# Altium footprint library SOT.PcbLib: 29 footprints (part 2 of 2)
Each footprint in its own frame and in the unit in brackets; x right, y up, seen from the top. Pads: shape width x height; smd on the part's side, far side on the other; paste and mask are expansions set on the pad; w line width, h text height; cw(c..) or ccw(c..) is an arc to the next point about the centre after c.
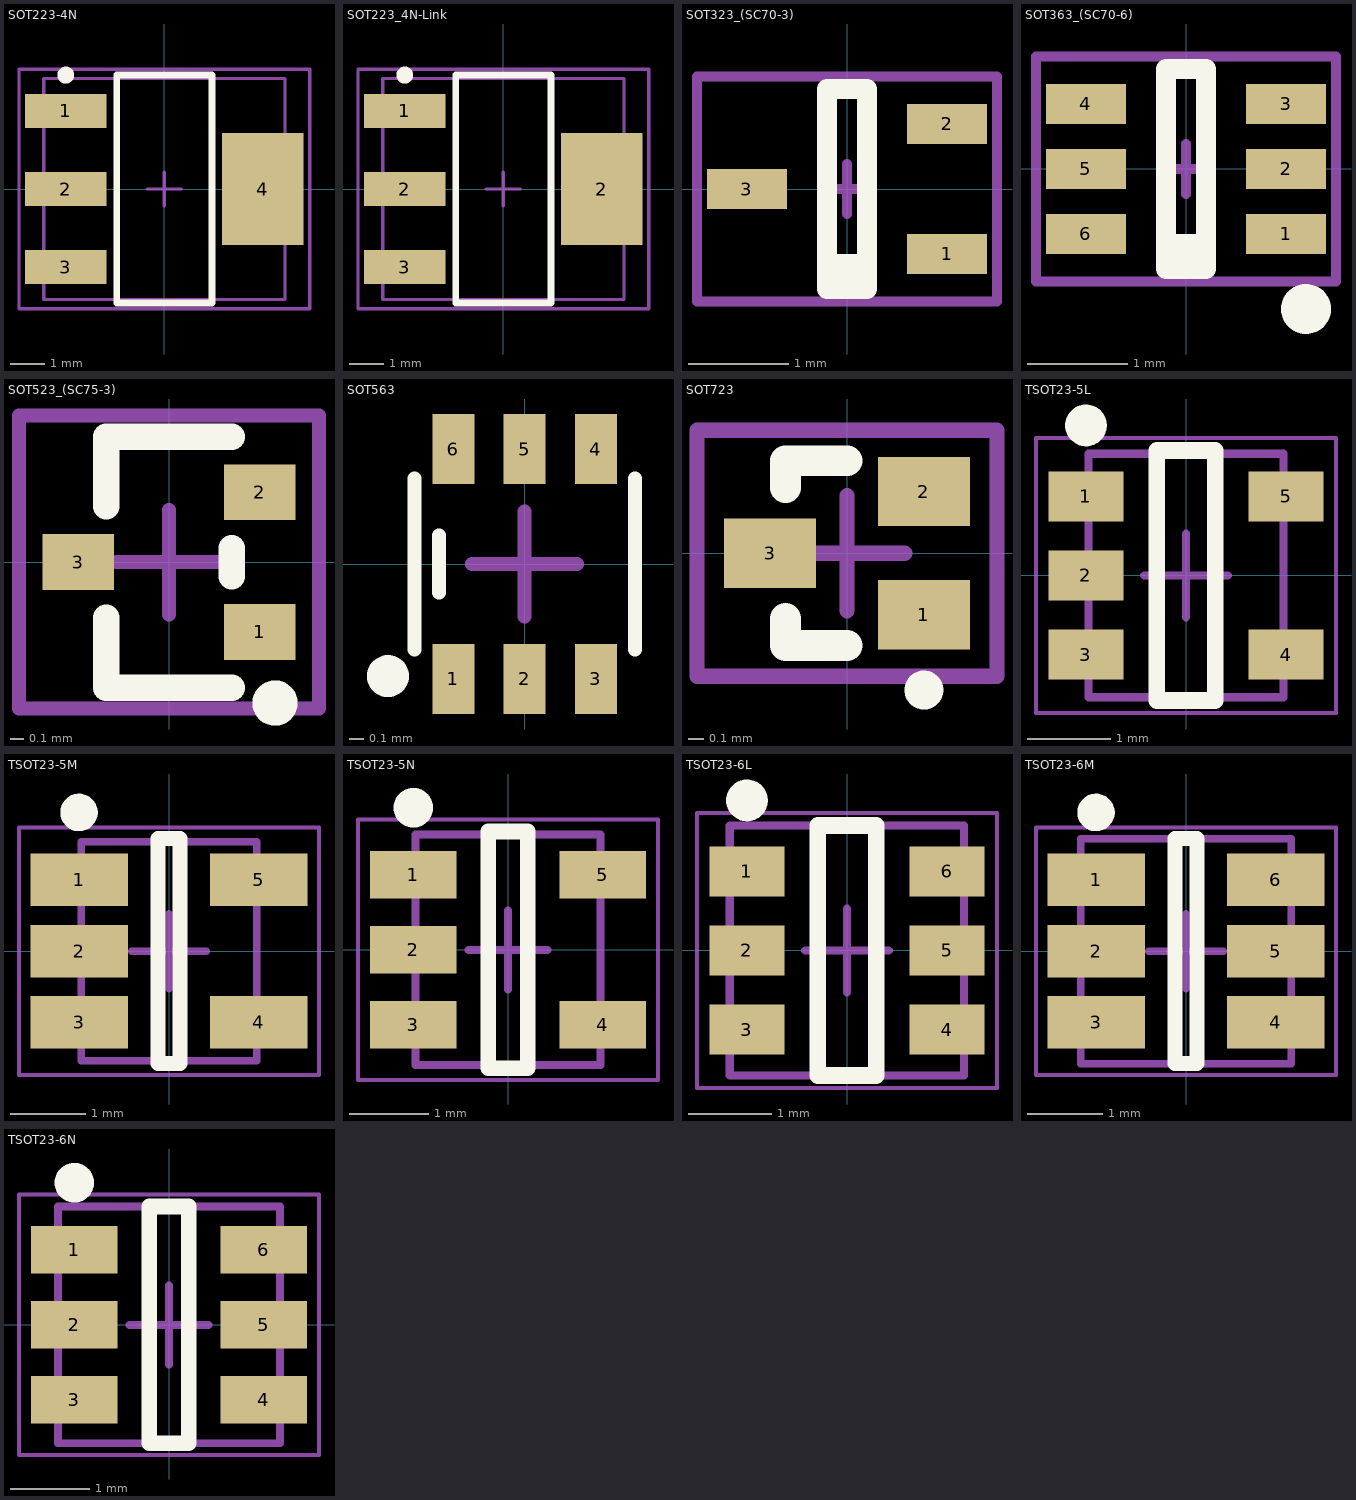
[diagram p1: the footprints below, top view; thin cyan lines are the x and y axes]

## SOT223-4N [mm] "SOT223, 4-Leads, Body 6.5x3.5mm, Pitch 2.3mm, Lead Span 7mm, IPC Medium Density"
height 1.7
pads (4):
  rect 2.4x1 smd: 1(-2.9,2.3) 2(-2.9,0) 3(-2.9,-2.3)
  rect 2.4x3.3 smd: 4(2.9,0)
Top Overlay:
  circle w0.25: c-2.9,3.35 r0.125
  lines w0.2: -1.4,-3.35 -1.4,3.35 1.4,3.35 1.4,-3.35 -1.4,-3.35
Mechanical 13:
  lines w0.1: -3.55,-3.25 -3.55,3.25 3.55,3.25 3.55,-3.25 -3.55,-3.25
Mechanical 15:
  lines w0.1: -0.5,0 0.5,0 ; 0,-0.5 0,0.5 ; -4.275,-3.525 -4.275,3.525 4.275,3.525 4.275,-3.525 -4.275,-3.525
3D body "User Library-SOT-223-4.STEP": height 1.65, standoff 0, extent -3.543,-3.25 3.543,3.25

## SOT223_4N-Link [mm] "SOT223, 4-Leads, Body 6.5x3.5mm, Pitch 2.3mm, Lead Span 7mm, IPC Medium Density"
height 1.7
pads (4):
  rect 2.4x1 smd: 1(-2.9,2.3) 2(-2.9,0) 3(-2.9,-2.3)
  rect 2.4x3.3 smd: 2(2.9,0)
Top Overlay:
  circle w0.25: c-2.9,3.35 r0.125
  lines w0.2: -1.4,-3.35 -1.4,3.35 1.4,3.35 1.4,-3.35 -1.4,-3.35
Mechanical 13:
  lines w0.1: -3.55,-3.25 3.55,-3.25 3.55,3.25 -3.55,3.25 -3.55,-3.25
Mechanical 15:
  lines w0.1: -0.5,0 0.5,0 ; 0,-0.5 0,0.5 ; -4.275,-3.525 -4.275,3.525 4.275,3.525 4.275,-3.525 -4.275,-3.525
3D body "User Library-SOT-223-4.STEP": height 1.65, standoff 0, extent -3.543,-3.25 3.543,3.25

## SOT323_(SC70-3) [mm]
pads (3):
  rect 0.8x0.4 smd mask+0.051: 1(1,-0.65) 2(1,0.65) 3(-1,0)
Top Overlay:
  lines w0.2: -0.2,-0.875 0.2,-0.875 ; -0.2,-0.75 0.2,-0.75 ; -0.2,-1 0.2,-1 0.2,1 -0.2,1 -0.2,-1
Mechanical 15:
  lines w0.1: -0.25,0 0.25,0 ; 0,-0.25 0,0.25 ; -1.5,-1.125 1.5,-1.125 1.5,1.125 -1.5,1.125 -1.5,-1.125
3D body "SOT323_(SC70-3).STEP": height 1.11, standoff 0.01, extent -1.123,-1.1 1.122,1.1

## SOT363_(SC70-6) [mm]
pads (6):
  rect 0.8x0.4 smd mask+0.051: 1(1,-0.65) 2(1,0) 3(1,0.65) 4(-1,0.65) 5(-1,0) 6(-1,-0.65)
Top Overlay:
  circle w0.25: c1.2,-1.4 r0.125
  lines w0.2: -0.2,-0.875 0.2,-0.875 ; -0.2,-0.75 0.2,-0.75 ; -0.2,-1 0.2,-1 0.2,1 -0.2,1 -0.2,-1
Mechanical 15:
  lines w0.1: -0.25,0 0.25,0 ; 0,-0.25 0,0.25 ; -1.5,-1.125 1.5,-1.125 1.5,1.125 -1.5,1.125 -1.5,-1.125
3D body "SOT363-6_(SC70-6).STEP": height 1.01, standoff -0.04, extent -1.131,-1 1.131,1

## SOT523_(SC75-3) [mm]
pads (3):
  rect 0.51x0.4 smd: 1(0.65,-0.5) 2(0.65,0.5) 3(-0.65,0)
Top Overlay:
  circle w0.19: c0.76,-1.01 r0.067
  lines w0.19: -0.45,-0.399 -0.45,-0.9 0.45,-0.9 0.45,-0.899 ; -0.45,0.399 -0.45,0.9 0.45,0.9 0.45,0.899 ; 0.45,-0.101 0.45,0.101
Mechanical 15:
  lines w0.1: -0.375,0 0,0 ; 0,-0.375 0,0 ; 0,0.375 0,0 ; 0.375,0 0,0 ; -1.075,-1.05 1.075,-1.05 1.075,1.05 -1.075,1.05 -1.075,-1.05
3D body "SOT523.STEP": height 0.81, standoff 0.01, extent -0.8,-0.8 0.8,0.8

## SOT563 [mm]
height 0.25
pads (6):
  rect 0.3x0.5 smd: 1(-0.508,-0.82) 2(0,-0.82) 3(0.508,-0.82) 4(0.508,0.82) 5(0,0.82) 6(-0.508,0.82)
Top Overlay:
  circle w0.2: c-0.975,-0.8 r0.05
  lines w0.1: -0.787,-0.609 -0.787,0.61 ; -0.61,-0.203 -0.61,0.203 ; 0.787,-0.609 0.787,0.61
Mechanical 15:
  lines w0.1: -0.375,0 0,0 ; 0,-0.375 0,0 ; 0,0.375 0,0 ; 0.375,0 0,0
3D body "SOT563.STEP": height 0.58, standoff 0, extent -0.8,-0.813 0.8,0.813

## SOT723 [mm]
pads (3):
  rect 0.6x0.45 smd: 1(0.5,-0.4) 2(0.5,0.4) 3(-0.5,0)
Top Overlay:
  circle w0.15: c0.5,-0.89 r0.051
  lines w0.2: -0.4,-0.425 -0.4,-0.6 0,-0.6 ; -0.4,0.425 -0.4,0.6 0,0.6
Mechanical 15:
  lines w0.1: -0.375,0 0,0 ; 0,-0.375 0,0 ; 0,0.375 0,0 ; 0.375,0 0,0 ; -0.975,-0.8 0.975,-0.8 0.975,0.8 -0.975,0.8 -0.975,-0.8
3D body "SOT723.STEP": height 0.46, standoff 0, extent -0.4,-0.625 0.65,0.625

## TSOT23-5L [mm] "SOT23, 5-Leads, Body 2.92x2.80mm, Pitch 0.95mm, IPC High Density"
height 1
pads (5):
  rect 0.9x0.6 smd: 1(-1.2,0.95) 2(-1.2,0) 3(-1.2,-0.95) 4(1.2,-0.95) 5(1.2,0.95)
Top Overlay:
  circle w0.25: c-1.2,1.8 r0.125
  lines w0.2: -0.35,-1.5 -0.35,1.5 0.35,1.5 0.35,-1.5 -0.35,-1.5
Mechanical 13:
  lines w0.1: -1.17,-1.46 1.17,-1.46 1.17,1.46 -1.17,1.46 -1.17,-1.46
Mechanical 15:
  lines w0.05: -1.8,-1.65 1.8,-1.65 1.8,1.65 -1.8,1.65 -1.8,-1.65
  lines w0.1: -0.5,0 0.5,0 ; 0,-0.5 0,0.5
3D body "SOT23-5.STEP": height 1, standoff 0, extent -1.17,-1.46 1.17,1.46

## TSOT23-5M [mm] "SOT23, 5-Leads, Body 2.92x2.80mm, Pitch 0.95mm, IPC Low Density"
height 1
pads (5):
  rect 1.3x0.7 smd: 1(-1.2,0.95) 2(-1.2,0) 3(-1.2,-0.95) 4(1.2,-0.95) 5(1.2,0.95)
Top Overlay:
  circle w0.25: c-1.2,1.85 r0.125
  lines w0.2: -0.15,-1.5 0.15,-1.5 0.15,1.5 -0.15,1.5 -0.15,-1.5
Mechanical 13:
  lines w0.1: -1.17,-1.46 -1.17,1.46 1.17,1.46 1.17,-1.46 -1.17,-1.46
Mechanical 15:
  lines w0.05: -2,-1.65 -2,1.65 2,1.65 2,-1.65 -2,-1.65
  lines w0.1: -0.5,0 0.5,0 ; 0,-0.5 0,0.5
3D body "SOT23-5.STEP": height 1, standoff 0, extent -1.17,-1.46 1.17,1.46

## TSOT23-5N [mm] "SOT23, 5-Leads, Body 2.92x2.80mm, Pitch 0.95mm, IPC Medium Density"
height 1
pads (5):
  rect 1.1x0.6 smd: 1(-1.2,0.95) 2(-1.2,0) 3(-1.2,-0.95) 4(1.2,-0.95) 5(1.2,0.95)
Top Overlay:
  circle w0.25: c-1.2,1.8 r0.125
  lines w0.2: -0.25,-1.5 -0.25,1.5 0.25,1.5 0.25,-1.5 -0.25,-1.5
Mechanical 13:
  lines w0.1: -1.17,-1.46 1.17,-1.46 1.17,1.46 -1.17,1.46 -1.17,-1.46
Mechanical 15:
  lines w0.05: -1.9,-1.65 1.9,-1.65 1.9,1.65 -1.9,1.65 -1.9,-1.65
  lines w0.1: -0.5,0 0.5,0 ; 0,-0.5 0,0.5
3D body "SOT23-5.STEP": height 1, standoff 0, extent -1.17,-1.46 1.17,1.46

## TSOT23-6L [mm] "SOT23, 6-Leads, Body 2.90x2.80mm, Pitch 0.95mm, IPC High Density"
height 1
pads (6):
  rect 0.9x0.6 smd: 1(-1.2,0.95) 2(-1.2,0) 3(-1.2,-0.95) 4(1.2,-0.95) 5(1.2,0) 6(1.2,0.95)
Top Overlay:
  circle w0.25: c-1.2,1.8 r0.125
  lines w0.2: -0.35,-1.5 -0.35,1.5 0.35,1.5 0.35,-1.5 -0.35,-1.5
Mechanical 13:
  lines w0.1: -1.405,-1.5 -1.405,1.5 1.405,1.5 1.405,-1.5 -1.405,-1.5
Mechanical 15:
  lines w0.05: -1.8,-1.65 1.8,-1.65 1.8,1.65 -1.8,1.65 -1.8,-1.65
  lines w0.1: -0.5,0 0.5,0 ; 0,-0.5 0,0.5
3D body "TSOT23-6.STEP": height 0.86, standoff 0, extent -1.405,-1.5 1.405,1.5

## TSOT23-6M [mm] "SOT23, 6-Leads, Body 2.90x2.80mm, Pitch 0.95mm, IPC Low Density"
height 1
pads (6):
  rect 1.3x0.7 smd: 1(-1.2,0.95) 2(-1.2,0) 3(-1.2,-0.95) 4(1.2,-0.95) 5(1.2,0) 6(1.2,0.95)
Top Overlay:
  circle w0.25: c-1.2,1.85 r0.125
  lines w0.2: -0.15,-1.5 0.15,-1.5 0.15,1.5 -0.15,1.5 -0.15,-1.5
Mechanical 13:
  lines w0.1: -1.405,-1.5 1.405,-1.5 1.405,1.5 -1.405,1.5 -1.405,-1.5
Mechanical 15:
  lines w0.05: -2,-1.65 -2,1.65 2,1.65 2,-1.65 -2,-1.65
  lines w0.1: -0.5,0 0.5,0 ; 0,-0.5 0,0.5
3D body "TSOT23-6.STEP": height 0.86, standoff 0, extent -1.405,-1.5 1.405,1.5

## TSOT23-6N [mm] "SOT23, 6-Leads, Body 2.90x2.80mm, Pitch 0.95mm, IPC Medium Density"
height 1
pads (6):
  rect 1.1x0.6 smd: 1(-1.2,0.95) 2(-1.2,0) 3(-1.2,-0.95) 4(1.2,-0.95) 5(1.2,0) 6(1.2,0.95)
Top Overlay:
  circle w0.25: c-1.2,1.8 r0.125
  lines w0.2: -0.25,-1.5 0.25,-1.5 0.25,1.5 -0.25,1.5 -0.25,-1.5
Mechanical 13:
  lines w0.1: -1.405,-1.5 -1.405,1.5 1.405,1.5 1.405,-1.5 -1.405,-1.5
Mechanical 15:
  lines w0.05: -1.9,-1.65 -1.9,1.65 1.9,1.65 1.9,-1.65 -1.9,-1.65
  lines w0.1: -0.5,0 0.5,0 ; 0,-0.5 0,0.5
3D body "TSOT23-6.STEP": height 0.86, standoff 0, extent -1.405,-1.5 1.405,1.5